# EAGLE library part MSP430G2755_DA_38 (library TI_controller)
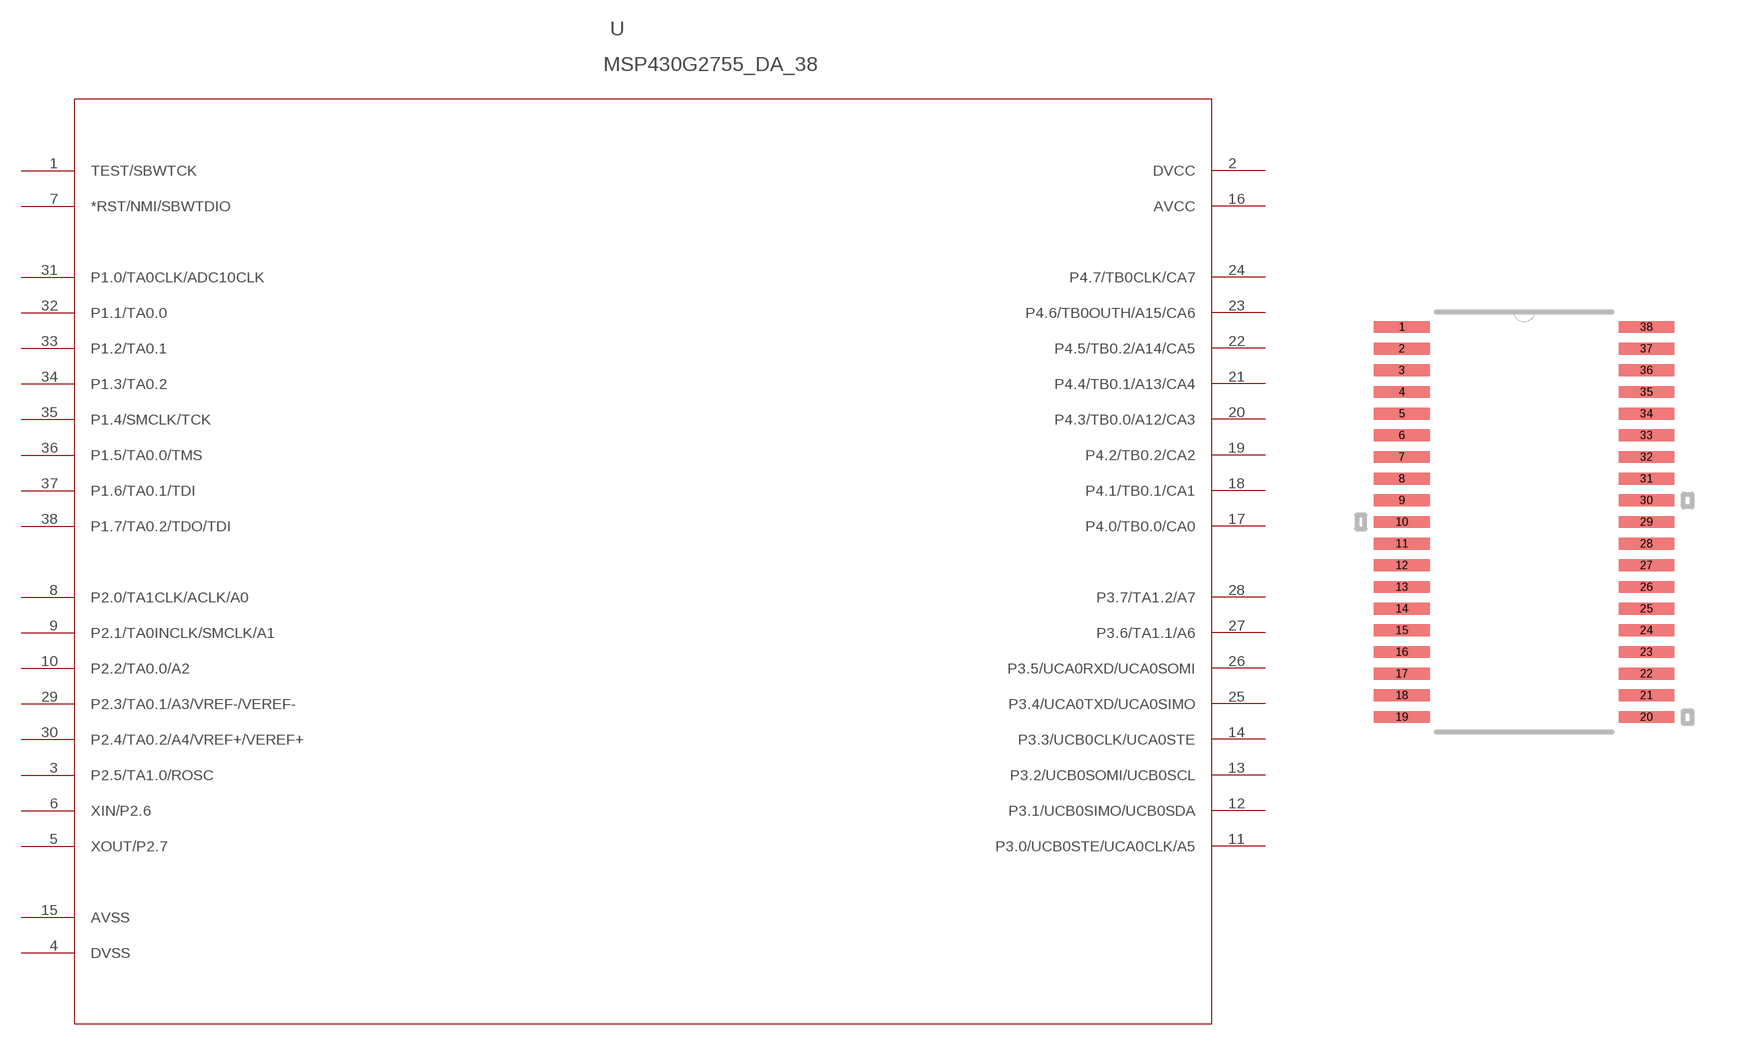
[diagram p0: symbol with the pads of DA38; footprint DA38]

Designator prefix U

## MSP430G2755_DA_38 (MANUFACTURER_PART_NUMBER: msp430g2755_da_38; VENDOR: TEXAS INSTRUMENTS)  [DA38]
1  TEST/SBWTCK  in
2  DVCC  pwr
3  P2.5/TA1.0/ROSC  pas
4  DVSS  pwr
5  XOUT/P2.7  pas
6  XIN/P2.6  pas
7  *RST/NMI/SBWTDIO  in
8  P2.0/TA1CLK/ACLK/A0  pas
9  P2.1/TA0INCLK/SMCLK/A1  pas
10  P2.2/TA0.0/A2  pas
11  P3.0/UCB0STE/UCA0CLK/A5  pas
12  P3.1/UCB0SIMO/UCB0SDA  pas
13  P3.2/UCB0SOMI/UCB0SCL  pas
14  P3.3/UCB0CLK/UCA0STE  pas
15  AVSS  pwr
16  AVCC  pwr
17  P4.0/TB0.0/CA0  pas
18  P4.1/TB0.1/CA1  pas
19  P4.2/TB0.2/CA2  pas
20  P4.3/TB0.0/A12/CA3  pas
21  P4.4/TB0.1/A13/CA4  pas
22  P4.5/TB0.2/A14/CA5  pas
23  P4.6/TB0OUTH/A15/CA6  pas
24  P4.7/TB0CLK/CA7  pas
25  P3.4/UCA0TXD/UCA0SIMO  pas
26  P3.5/UCA0RXD/UCA0SOMI  pas
27  P3.6/TA1.1/A6  pas
28  P3.7/TA1.2/A7  pas
29  P2.3/TA0.1/A3/VREF-/VEREF-  pas
30  P2.4/TA0.2/A4/VREF+/VEREF+  pas
31  P1.0/TA0CLK/ADC10CLK  pas
32  P1.1/TA0.0  pas
33  P1.2/TA0.1  pas
34  P1.3/TA0.2  pas
35  P1.4/SMCLK/TCK  pas
36  P1.5/TA0.0/TMS  pas
37  P1.6/TA0.1/TDI  pas
38  P1.7/TA0.2/TDO/TDI  pas

## Footprint DA38 (pad centres in mm)
smd 1.676 x 0.356: 1 -3.67,5.85; 2 -3.67,5.2; 3 -3.67,4.55; 4 -3.67,3.9; 5 -3.67,3.25; 6 -3.67,2.6; 7 -3.67,1.95; 8 -3.67,1.3; 9 -3.67,0.65; 10 -3.67,0; 11 -3.67,-0.65; 12 -3.67,-1.3; 13 -3.67,-1.95; 14 -3.67,-2.6; 15 -3.67,-3.25; 16 -3.67,-3.9; 17 -3.67,-4.55; 18 -3.67,-5.2; 19 -3.67,-5.85; 20 3.67,-5.85; 21 3.67,-5.2; 22 3.67,-4.55; 23 3.67,-3.9; 24 3.67,-3.25; 25 3.67,-2.6; 26 3.67,-1.95; 27 3.67,-1.3; 28 3.67,-0.65; 29 3.67,0; 30 3.67,0.65; 31 3.67,1.3; 32 3.67,1.95; 33 3.67,2.6; 34 3.67,3.25; 35 3.67,3.9; 36 3.67,4.55; 37 3.67,5.2; 38 3.67,5.85